# Altium integrated library MyLibrary.IntLib: 18 symbols
Pins are listed as number, name and electrical type; pins without a type are passive.

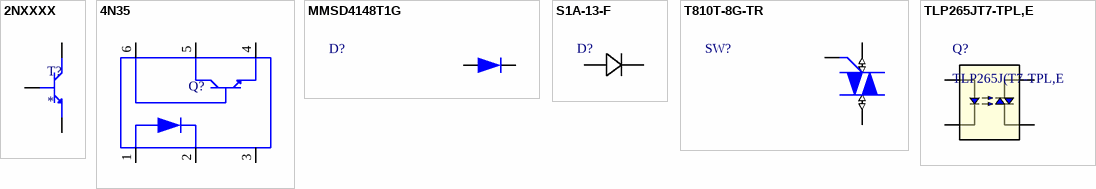
[diagram p0: symbols 2NXXXX to TLP265JT7-TPL,E]

## 2NXXXX
designator T?
footprint TO-92
pins: 1 B, 2 C, 3 E

## 4N35
designator Q?  (value not drawn)
Optoisolator Transistor with Base Output 5000Vrms 1 Channel 6-DIP; MF: Vishay; MP: 4N35; Purchase-URL: https://pricing.snapeda.com/search/part/4N35/?ref=eda; Price: None; SnapEDA_Link: https://www.snapeda.com/parts/4N35/Vishay%20Semiconductor%20Opto%20Division/view-part/579099/?ref=snap; Availability: Good; Value: *; Check_prices: https://www.snapeda.com/parts/4N35/Vishay%20Semiconductor%20Opto%20Division/view-part/579099/?ref=eda; Package: DIP-6 Texas Instruments
footprint DIP6-2.54
pins: 1 ANODE (io), 2 CATHODE (io), 3 NC (io), 4 EMITER (io), 5 COLLECTOR (io), 6 BASE (io)

## MMSD4148T1G
designator D?  (value not drawn)
DIODE; Manufacturer_Name: onsemi; Copyright: Copyright (C) 2025 Ultra Librarian. All rights reserved.; Manufacturer_Part_Number: MMSD4148T1G; RefDes: RefDes; Type: Type
footprint SOD-123
pins: 1 K, 2 A

## S1A-13-F
designator D?
Diodo rectificador; Mfr_Name: Diodes Inc
footprint SMA
pins: 1, 2

## T810T-8G-TR
designator SW?  (value not drawn)
8A 800V 150&#176;C D&#178;PAK Logic Level T-Series Triac; Manufacturer_Name: STMicroelectronics; Copyright: Copyright (C) 2025 Ultra Librarian. All rights reserved.; Manufacturer_Part_Number: T810T-8G-TR; Datasheet: https://www.st.com/resource/en/datasheet/t810t-8g.pdf; RefDes: RefDes; Type: Type
footprint D2PAK
pins: 1 A1 (io), 2 A2 (io), 3 G

## TLP265JT7-TPL,E
designator Q?, comment TLP265J(T7-TPL,E
No Description Available; Manufacturer_Name: Toshiba Electronic Devices & Storage Corp.; Number_devices_in_Package: 1; Copyright: Copyright (C) 2025 Ultra Librarian. All rights reserved.; Manufacturer_Part_Number: TLP265J(T7-TPL,E; Source_Package: TLP265J; RefDes: Refdes; Type: Type
footprint 4pin SO6_TOS
pins: 1, 3, 4, 6


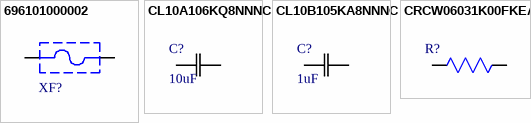
[diagram p1: symbols 696101000002 to CRCW06031K00FKEA]

## 696101000002
designator XF?  (value not drawn)
WR-FSH Fuseholder THT Blocks PCB Clip Cover; Manufacturer: Wurth Elektronik; Fuse Size: 5x20mm; ComponentLink1Description: Website Link; ComponentLink1URL: https://www.we-online.com/redexpert/article/696101000002?ad; ComponentLink2Description: Datasheet Link; ComponentLink2URL: https://www.we-online.com/redexpert/spec/696101000002?ad; Manufacturer Part Number: 696101000002; Category: Fuse Holder; Match Code: WR-FSH; Mount: THT; Operating Temperature Max: 120°C; Operating Temperature Min: -30°C; Packaging: Box
footprint 696108003002 (FUSEHOLDER BLOCKS - PCB - CLIP COVER - THT)
pins: 1, 2

## CL10A106KQ8NNNC
designator C?, comment 10uF
CAP 10uF Ceramic 0603 capacitor; Mfr_Name: Samsung
footprint 0603_CAP
footprint CAP 0603/1608 (Chip Capacitor, 2-Leads, Body 1.60x0.80mm, IPC Medium Density)
pins: 1, 2

## CL10B105KA8NNNC
designator C?, comment 1uF
CAP 1uF Ceramic 0603 capacitor; Mfr_Name: Samsung
footprint CAP 0603/1608 (Chip Capacitor, 2-Leads, Body 1.60x0.80mm, IPC Medium Density)
pins: 1, 2

## CRCW06031K00FKEA
designator R?  (value not drawn)
D11/CRCW0603 100 1K 1% ET1 e3; Manufacturer_Name: Vishay; Copyright: Copyright (C) 2025 Ultra Librarian. All rights reserved.; Manufacturer_Part_Number: CRCW06031K00FKEA; Datasheet: https://www.vishay.com/doc?20035
footprint CAP 0603/1608 (Chip Capacitor, 2-Leads, Body 1.60x0.80mm, IPC Medium Density)
pins: 1, 2


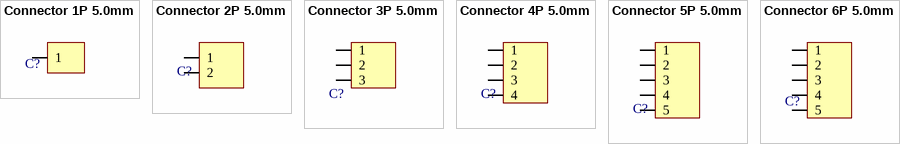
[diagram p2: symbols Connector 1P 5.0mm to Connector 6P 5.0mm]

## Connector 1P 5.0mm
designator C?  (value not drawn)
pins: 1

## Connector 2P 5.0mm
designator C?, comment DG128-5.0-02P-14  (value not drawn)
footprint DG128-5.0-02P-14
pins: 1, 2

## Connector 3P 5.0mm
designator C?, comment DG128-5.0-03P-14-00A(H)  (value not drawn)
pins: 1, 2, 3

## Connector 4P 5.0mm
designator C?  (value not drawn)
pins: 1, 2, 3, 4

## Connector 5P 5.0mm
designator C?  (value not drawn)
pins: 1, 2, 3, 4, 5

## Connector 6P 5.0mm
designator C?  (value not drawn)
pins: 1, 2, 3, 4, 5


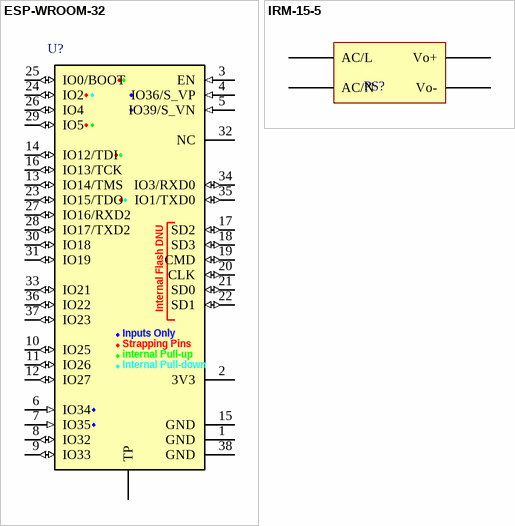
[diagram p3: symbols ESP-WROOM-32 to IRM-15-5]

## ESP-WROOM-32
designator U?, comment Red markers can't be pull up. Blue markers can't be pull down.  (value not drawn)
ESP32 MCU
footprint ESP32­WROOM­32E_EXP
pins: 1 GND (power), 2 3V3 (power), 3 EN (in), 4 IO36/S_VP (in), 5 IO39/S_VN (in), 6 IO34 (in), 7 IO35 (in), 8 IO32 (io), 9 IO33 (io), 10 IO25 (io), 11 IO26 (io), 12 IO27 (io), 13 IO14/TMS (io), 14 IO12/TDI (io), 15 GND (power), 16 IO13/TCK (io), 17 SD2 (io), 18 SD3 (io), 19 CMD (io), 20 CLK (io), 21 SD0 (io), 22 SD1 (io), 23 IO15/TDO (io), 24 IO2 (io), 25 IO0/BOOT (io), 26 IO4 (io), 27 IO16/RXD2 (io), 28 IO17/TXD2 (io), 29 IO5 (io), 30 IO18 (io), 31 IO19 (io), 32 NC, 33 IO21 (io), 34 IO3/RXD0 (io), 35 IO1/TXD0 (io), 36 IO22 (io), 37 IO23 (io), 38 GND (power), TP (power)
text: Internal Flash DNU; Inputs Only; Strapping Pins; internal Pull-up; Internal Pull-down

## IRM-15-5
designator PS?  (value not drawn)
AC/DC 5V@15W MODULE
footprint IRM-15-5 (Power supply ac/dc 5V 15W)
pins: AC/L, AC/N, Vo+, Vo-